# Altium footprint library LED_1206.PcbLib: 1 footprints
Each footprint in its own frame and in the unit in brackets; x right, y up, seen from the top. Pads: shape width x height; smd on the part's side, far side on the other; paste and mask are expansions set on the pad; w line width, h text height; cw(c..) or ccw(c..) is an arc to the next point about the centre after c.
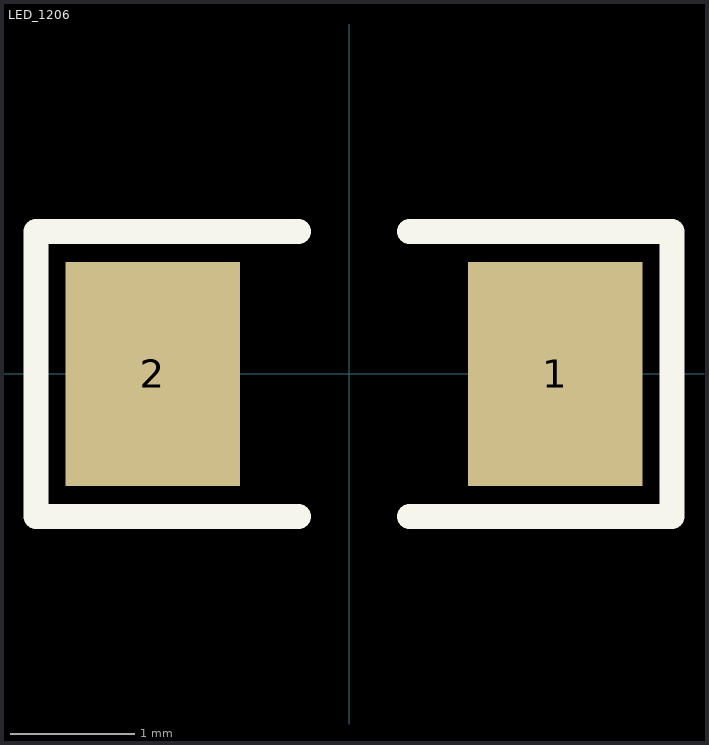
[diagram p0: the footprint, top view; thin cyan lines are the x and y axes]

## LED_1206 [mm]
pads (2):
  rect 1.4x1.8 smd: 1(1.651,0) 2(-1.575,0)
Top Overlay:
  lines w0.2: -0.406,-1.143 -2.515,-1.143 -2.515,1.143 -0.406,1.143 ; 0.483,-1.143 2.591,-1.143 2.591,1.143 0.483,1.143
  text "." at 2.921,-0.127 h1.52
3D body "LED_1206.step": height 1.1, standoff 0, extent -1.575,-0.8 1.625,0.8